# Altium schematic symbol library QHL300300S28.SchLib: 1 symbol
Pins are listed as number, name and electrical type; pins without a type are passive.

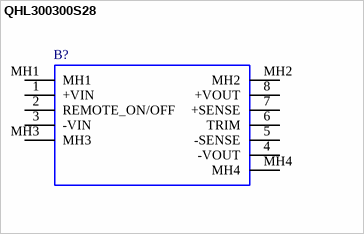
[diagram p0: symbol QHL300300S28]

## QHL300300S28
designator B?
Isolated DC/DC Converters DC-DC 300W 180-425VDC INPUT 1/4 BRICK; Manufacturer_Name: XP POWER; Geometry.Height: 13.2mm; Manufacturer_Part_Number: QHL300300S28; Mouser Part Number: 209-QHL300300S28; Mouser Price/Stock: https://www.mouser.co.uk/ProductDetail/XP-Power/QHL300300S28?qs=XeJtXLiO41S1AiIkr8Y80Q%3D%3D; Arrow Part Number: *; Arrow Price/Stock: *; Mouser Testing Part Number: *; Mouser Testing Price/Stock: *; Datasheet Link: https://datasheet.datasheetarchive.com/originals/distributors/Datasheets_SAMA/eb163ed829194035f4784d5866aa88af.pdf
footprint QHL300300S28
pins: 1 +VIN, 2 REMOTE_ON/OFF, 3 -VIN, 4 -VOUT, 5 -SENSE, 6 TRIM, 7 +SENSE, 8 +VOUT, MH1, MH2, MH3, MH4